# Altium integrated library AD Instrumentation Amplifier.IntLib: 75 symbols (part 2 of 2)
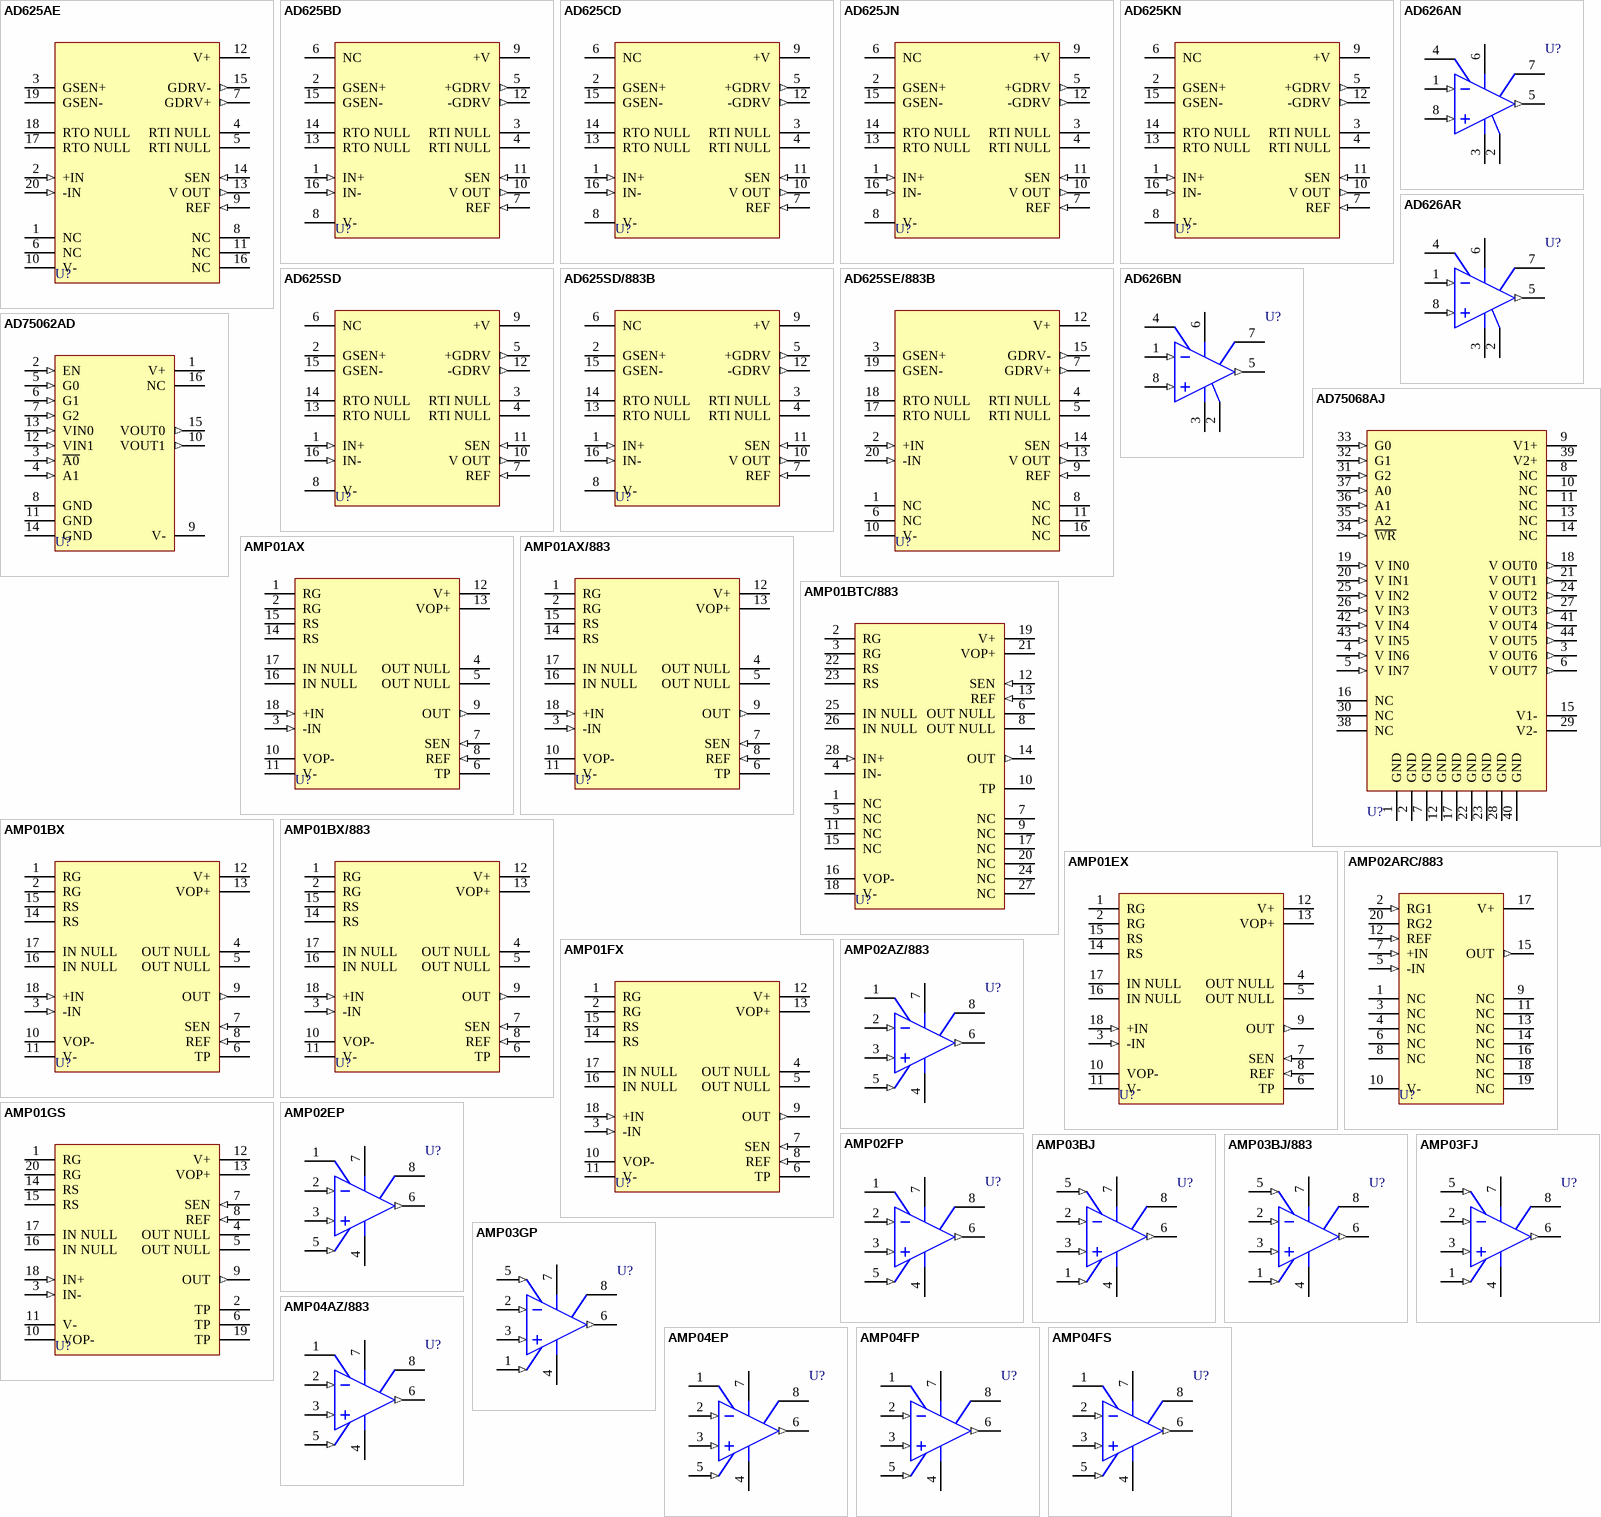
[diagram p3: symbols AD625AE to AMP04FS]

## AMP01BTC/883
designator U?
Low-Noise, Precision Instrumentation Amplifier; Note: Pins 1, 5, 7, 9, 11,15, 17, 20, 24 and 27 are not connected; Pin 10 is a test pin - make no electrical connection; Published: 8-Jun-2000; LatestRevisionDate: 17-Jul-2002; LatestRevisionNote: Re-released for DXP Platform.; DatasheetVersion: REV.C 1998; PackageReference: E-28A; Publisher: Altium Limited; PackageDescription: Leadless Chip Carrier; 28 Terminals; Body 11.4 x 11.4 mm; ComponentLink1Description: Manufacturer Link; ComponentLink1URL: http://www.analog.com/en/prod/0%2C2877%2CAMP01%2C00.html; ComponentLink2Description: Datasheet; ComponentLink2URL: http://www.analog.com/UploadedFiles/Data_Sheets/376080747AMP01_d.pdf
footprint E-28A (Leadless Chip Carrier; 28 Terminals; Body 11.4 x 11.4 mm)
simulation model AMP01 (SUBCKT)
pins: 1 NC, 2 RG, 3 RG, 4 IN-, 5 NC, 6 OUT NULL, 7 NC, 8 OUT NULL, 9 NC, 10 TP, 11 NC, 12 SEN (in), 13 REF (in), 14 OUT (out), 15 NC, 16 VOP- (power), 17 NC, 18 V- (power), 19 V+ (power), 20 NC, 21 VOP+ (power), 22 RS, 23 RS, 24 NC, 25 IN NULL, 26 IN NULL, 27 NC, 28 IN+ (in)

## AMP01BX
designator U?
Low-Noise, Precision Instrumentation Amplifier; Note: Pin 6 is a test pin.  Make no electrical connection to pin 6; Published: 8-Jun-2000; LatestRevisionDate: 04-Mar-2005; LatestRevisionNote: Stylized 3D Model Added.; DatasheetVersion: REV.C 1998; PackageReference: Q-18; Publisher: Altium Limited; PackageDescription: DIP, Ceramic; 18 Leads; Row Spacing 7.62 mm; Pitch 2.54 mm; ComponentLink1Description: Manufacturer Link; ComponentLink1URL: http://www.analog.com/en/prod/0%2C2877%2CAMP01%2C00.html; ComponentLink2Description: Datasheet; ComponentLink2URL: http://www.analog.com/UploadedFiles/Data_Sheets/376080747AMP01_d.pdf
footprint Q-18 (DIP, Ceramic; 18 Leads; Row Spacing 7.62 mm; Pitch 2.54 mm)
3D model Q18 (DIP, Ceramic; 18 Leads; Row Spacing 7.62 mm; Pitch 2.54 mm)
simulation model AMP01 (SUBCKT)
pins: 1 RG, 2 RG, 3 -IN (in), 4 OUT NULL, 5 OUT NULL, 6 TP, 7 SEN (in), 8 REF (in), 9 OUT (out), 10 VOP- (power), 11 V- (power), 12 V+ (power), 13 VOP+ (power), 14 RS, 15 RS, 16 IN NULL, 17 IN NULL, 18 +IN (in)

## AMP01BX/883
designator U?
Low-Noise, Precision Instrumentation Amplifier; Note: Pin 6 is a test pin.  Make no electrical connection to pin 6; Published: 8-Jun-2000; LatestRevisionDate: 04-Mar-2005; LatestRevisionNote: Stylized 3D Model Added.; DatasheetVersion: REV.C1 1990; PackageReference: Q-18; Publisher: Altium Limited; PackageDescription: DIP, Ceramic; 18 Leads; Row Spacing 7.62 mm; Pitch 2.54 mm; ComponentLink1Description: Manufacturer Link; ComponentLink1URL: http://www.analog.com/en/prod/0%2C2877%2CAMP01%2C00.html; ComponentLink2Description: Datasheet; ComponentLink2URL: http://www.analog.com/UploadedFiles/Data_Sheets/376080747AMP01_d.pdf
footprint Q-18 (DIP, Ceramic; 18 Leads; Row Spacing 7.62 mm; Pitch 2.54 mm)
3D model Q18 (DIP, Ceramic; 18 Leads; Row Spacing 7.62 mm; Pitch 2.54 mm)
simulation model AMP01 (SUBCKT)
pins: 1 RG, 2 RG, 3 -IN (in), 4 OUT NULL, 5 OUT NULL, 6 TP, 7 SEN (in), 8 REF (in), 9 OUT (out), 10 VOP- (power), 11 V- (power), 12 V+ (power), 13 VOP+ (power), 14 RS, 15 RS, 16 IN NULL, 17 IN NULL, 18 +IN (in)

## AMP01EX
designator U?
Low-Noise, Precision Instrumentation Amplifier; Note: Pin 6 is a test pin.  Make no electrical connection to pin 6; Published: 8-Jun-2000; LatestRevisionDate: 04-Mar-2005; LatestRevisionNote: Stylized 3D Model Added.; DatasheetVersion: REV.C 1998; PackageReference: Q-18; Publisher: Altium Limited; PackageDescription: DIP, Ceramic; 18 Leads; Row Spacing 7.62 mm; Pitch 2.54 mm; ComponentLink1Description: Manufacturer Link; ComponentLink1URL: http://www.analog.com/en/prod/0%2C2877%2CAMP01%2C00.html; ComponentLink2Description: Datasheet; ComponentLink2URL: http://www.analog.com/UploadedFiles/Data_Sheets/376080747AMP01_d.pdf
footprint Q-18 (DIP, Ceramic; 18 Leads; Row Spacing 7.62 mm; Pitch 2.54 mm)
3D model Q18 (DIP, Ceramic; 18 Leads; Row Spacing 7.62 mm; Pitch 2.54 mm)
simulation model AMP01 (SUBCKT)
pins: 1 RG, 2 RG, 3 -IN (in), 4 OUT NULL, 5 OUT NULL, 6 TP, 7 SEN (in), 8 REF (in), 9 OUT (out), 10 VOP- (power), 11 V- (power), 12 V+ (power), 13 VOP+ (power), 14 RS, 15 RS, 16 IN NULL, 17 IN NULL, 18 +IN (in)

## AMP01FX
designator U?
Low-Noise, Precision Instrumentation Amplifier; Note: Pin 6 is a test pin.  Make no electrical connection to pin 6; Published: 8-Jun-2000; LatestRevisionDate: 04-Mar-2005; LatestRevisionNote: Stylized 3D Model Added.; DatasheetVersion: REV.C 1998; PackageReference: Q-18; Publisher: Altium Limited; PackageDescription: DIP, Ceramic; 18 Leads; Row Spacing 7.62 mm; Pitch 2.54 mm; ComponentLink1Description: Manufacturer Link; ComponentLink1URL: http://www.analog.com/en/prod/0%2C2877%2CAMP01%2C00.html; ComponentLink2Description: Datasheet; ComponentLink2URL: http://www.analog.com/UploadedFiles/Data_Sheets/376080747AMP01_d.pdf
footprint Q-18 (DIP, Ceramic; 18 Leads; Row Spacing 7.62 mm; Pitch 2.54 mm)
3D model Q18 (DIP, Ceramic; 18 Leads; Row Spacing 7.62 mm; Pitch 2.54 mm)
simulation model AMP01 (SUBCKT)
pins: 1 RG, 2 RG, 3 -IN (in), 4 OUT NULL, 5 OUT NULL, 6 TP, 7 SEN (in), 8 REF (in), 9 OUT (out), 10 VOP- (power), 11 V- (power), 12 V+ (power), 13 VOP+ (power), 14 RS, 15 RS, 16 IN NULL, 17 IN NULL, 18 +IN (in)

## AMP01GS
designator U?
Low-Noise, Precision Instrumentation Amplifier; Note: Pins 2 and 19 are not connected; Pin 6 is a test pin - make no electrical connection to pin 6; Published: 8-Jun-2000; LatestRevisionDate: 13-Apr-2006; LatestRevisionNote: IPC-7351 Footprint Added.; DatasheetVersion: REV.C 1998; PackageReference: SOL-20; Publisher: Altium Limited; PackageDescription: 20-Pin Small Outline Integrated Circuit 1.27 mm Pitch; Code_JEDEC: MS-013-AC; Code_IPC: SOIC127P1030-20; ComponentLink1Description: Manufacturer Link; ComponentLink1URL: http://www.analog.com/en/prod/0%2C2877%2CAMP01%2C00.html; ComponentLink2Description: Datasheet; ComponentLink2URL: http://www.analog.com/UploadedFiles/Data_Sheets/376080747AMP01_d.pdf
footprint SOL-20_N (SOIC, 20-Leads, Body 12.8x7.5mm, Pitch 1.27mm, IPC Medium Density)
footprint SOL-20_L (SOIC, 20-Leads, Body 12.8x7.5mm, Pitch 1.27mm, IPC High Density)
footprint SOL-20_M (SOIC, 20-Leads, Body 12.8x7.5mm, Pitch 1.27mm, IPC Low Density)
3D model SOL-20 (20-Pin Small Outline Integrated Circuit 1.27 mm Pitch)
simulation model AMP01 (SUBCKT)
pins: 1 RG, 2 TP, 3 IN- (in), 4 OUT NULL, 5 OUT NULL, 6 TP, 7 SEN (in), 8 REF (in), 9 OUT (out), 10 VOP- (power), 11 V- (power), 12 V+ (power), 13 VOP+ (power), 14 RS, 15 RS, 16 IN NULL, 17 IN NULL, 18 IN+ (in), 19 TP, 20 RG

## AMP02ARC/883
designator U?
High-Accuracy 8-Pin Instrumentation Amplifier; Note: Pins 1, 3, 4, 6, 8, 9, 11, 13, 14, 16, 18 and 19 are not connected; Published: 8-Jun-2000; LatestRevisionDate: 17-Jul-2002; LatestRevisionNote: Re-released for DXP Platform.; DatasheetVersion: REV.A 1993; PackageReference: E-20A; Publisher: Altium Limited; PackageDescription: Leadless Chip Carrier; 20 Terminals; Body 8.9 x 8.9 mm; ComponentLink1Description: Manufacturer Link; ComponentLink1URL: http://www.analog.com/
footprint E-20A (Leadless Chip Carrier; 20 Terminals; Body 8.9 x 8.9 mm)
simulation model AMP02 (SUBCKT)
pins: 1 NC, 2 RG1 (in), 3 NC, 4 NC, 5 -IN (in), 6 NC, 7 +IN (in), 8 NC, 9 NC, 10 V- (power), 11 NC, 12 REF (in), 13 NC, 14 NC, 15 OUT (out), 16 NC, 17 V+ (power), 18 NC, 19 NC, 20 RG2

## AMP02AZ/883
designator U?
High-Accuracy 8-Pin Instrumentation Amplifier; Published: 8-Jun-2000; LatestRevisionDate: 04-Mar-2005; LatestRevisionNote: Stylized 3D Model Added.; DatasheetVersion: REV.D 1998; PackageVersion: 1998; PackageReference: Q-8; Publisher: Altium Limited; PackageDescription: DIP; 8 Leads; Row Spacing 7.62 mm; Pitch 2.54 mm; ComponentLink1Description: Manufacturer Link; ComponentLink1URL: http://www.analog.com/en/prod/0%2C2877%2CAMP02%2C00.html; ComponentLink2Description: Datasheet; ComponentLink2URL: http://www.analog.com/UploadedFiles/Data_Sheets/855528794AMP02_e.pdf
footprint Q-8 (DIP; 8 Leads; Row Spacing 7.62 mm; Pitch 2.54 mm)
3D model N8 (DIP; 8 Leads; Row Spacing 7.62 mm; Pitch 2.54 mm)
simulation model AMP02 (SUBCKT)
pins: 1 RG1, 2 IN- (in), 3 IN+ (in), 4 V- (power), 5 REF (in), 6 OUT (out), 7 V+ (power), 8 RG2

## AMP02EP
designator U?
High-Accuracy 8-Pin Instrumentation Amplifier; Published: 8-Jun-2000; LatestRevisionDate: 04-Mar-2005; LatestRevisionNote: Stylized 3D Model Added.; DatasheetVersion: REV.D 1998; PackageReference: N-8_A; Publisher: Altium Limited; PackageDescription: DIP; 8 Leads; Row Spacing 7.62 mm; Pitch 2.54 mm; Code_JEDEC: MO-001-AN; ComponentLink1Description: Manufacturer Link; ComponentLink1URL: http://www.analog.com/en/prod/0%2C2877%2CAMP02%2C00.html; ComponentLink2Description: Datasheet; ComponentLink2URL: http://www.analog.com/UploadedFiles/Data_Sheets/855528794AMP02_e.pdf
footprint N-8_A (DIP; 8 Leads; Row Spacing 7.62 mm; Pitch 2.54 mm)
3D model N8-A (DIP; 8 Leads; Row Spacing 7.62 mm; Pitch 2.54 mm)
simulation model AMP02 (SUBCKT)
pins: 1 RG1, 2 IN- (in), 3 IN+ (in), 4 V- (power), 5 REF (in), 6 OUT (out), 7 V+ (power), 8 RG2

## AMP02FP
designator U?
High-Accuracy 8-Pin Instrumentation Amplifier; Published: 8-Jun-2000; LatestRevisionDate: 04-Mar-2005; LatestRevisionNote: Stylized 3D Model Added.; DatasheetVersion: REV.D 1998; PackageReference: N-8_A; Publisher: Altium Limited; PackageDescription: DIP; 8 Leads; Row Spacing 7.62 mm; Pitch 2.54 mm; Code_JEDEC: MO-001-AN; ComponentLink1Description: Manufacturer Link; ComponentLink1URL: http://www.analog.com/en/prod/0%2C2877%2CAMP02%2C00.html; ComponentLink2Description: Datasheet; ComponentLink2URL: http://www.analog.com/UploadedFiles/Data_Sheets/855528794AMP02_e.pdf
footprint N-8_A (DIP; 8 Leads; Row Spacing 7.62 mm; Pitch 2.54 mm)
3D model N8-A (DIP; 8 Leads; Row Spacing 7.62 mm; Pitch 2.54 mm)
simulation model AMP02 (SUBCKT)
pins: 1 RG1, 2 IN- (in), 3 IN+ (in), 4 V- (power), 5 REF (in), 6 OUT (out), 7 V+ (power), 8 RG2

## AMP03BJ
designator U?
Precision, Unity-Gain Differential Amplifier; Note: Pin 8 is not connected; Published: 8-Jun-2000; LatestRevisionDate: 17-Jul-2002; LatestRevisionNote: Re-released for DXP Platform.; DatasheetVersion: 1998; PackageVersion: 1990; PackageReference: H-08A; Publisher: Altium Limited; PackageDescription: Can; 8 Leads; Pin Circle Dia. 5.08 mm; Lead Dia. 0.53 mm (max); ComponentLink1Description: Manufacturer Link; ComponentLink1URL: http://www.analog.com/en/prod/0%2C2877%2CAMP03%2C00.html; ComponentLink2Description: Datasheet; ComponentLink2URL: http://www.analog.com/UploadedFiles/Data_Sheets/5401336159411174194AMP03_f.pdf
footprint H-08A (Can; 8 Leads; Pin Circle Dia. 5.08 mm; Lead Dia. 0.53 mm (max))
pins: 1 REF (in), 2 -IN (in), 3 +IN (in), 4 V- (power), 5 SEN (in), 6 OUT (out), 7 V+ (power), 8 NC

## AMP03BJ/883
designator U?
Precision, Unity-Gain Differential Amplifier; Note: Pin 8 is not connected; Published: 8-Jun-2000; LatestRevisionDate: 17-Jul-2002; LatestRevisionNote: Re-released for DXP Platform.; DatasheetVersion: 1998; PackageVersion: 1990; PackageReference: H-08A; Publisher: Altium Limited; PackageDescription: Can; 8 Leads; Pin Circle Dia. 5.08 mm; Lead Dia. 0.53 mm (max); ComponentLink1Description: Manufacturer Link; ComponentLink1URL: http://www.analog.com/en/prod/0%2C2877%2CAMP03%2C00.html; ComponentLink2Description: Datasheet; ComponentLink2URL: http://www.analog.com/UploadedFiles/Data_Sheets/5401336159411174194AMP03_f.pdf
footprint H-08A (Can; 8 Leads; Pin Circle Dia. 5.08 mm; Lead Dia. 0.53 mm (max))
pins: 1 REF (in), 2 -IN (in), 3 +IN (in), 4 V- (power), 5 SEN (in), 6 OUT (out), 7 V+ (power), 8 NC

## AMP03FJ
designator U?
Precision, Unity-Gain Differential Amplifier; Note: Pin 8 is not connected; Published: 8-Jun-2000; LatestRevisionDate: 17-Jul-2002; LatestRevisionNote: Re-released for DXP Platform.; DatasheetVersion: 1998; PackageVersion: 1990; PackageReference: H-08A; Publisher: Altium Limited; PackageDescription: Can; 8 Leads; Pin Circle Dia. 5.08 mm; Lead Dia. 0.53 mm (max); ComponentLink1Description: Manufacturer Link; ComponentLink1URL: http://www.analog.com/en/prod/0%2C2877%2CAMP03%2C00.html; ComponentLink2Description: Datasheet; ComponentLink2URL: http://www.analog.com/UploadedFiles/Data_Sheets/5401336159411174194AMP03_f.pdf
footprint H-08A (Can; 8 Leads; Pin Circle Dia. 5.08 mm; Lead Dia. 0.53 mm (max))
pins: 1 REF (in), 2 -IN (in), 3 +IN (in), 4 V- (power), 5 SEN (in), 6 OUT (out), 7 V+ (power), 8 NC

## AMP03GP
designator U?
Precision, Unity-Gain Differential Amplifier; Note: Pin 8 is not connected; Published: 8-Jun-2000; LatestRevisionDate: 04-Mar-2005; LatestRevisionNote: Stylized 3D Model Added.; DatasheetVersion: 1998; PackageReference: N-8_A; Publisher: Altium Limited; PackageDescription: DIP; 8 Leads; Row Spacing 7.62 mm; Pitch 2.54 mm; Code_JEDEC: MO-001-AN; ComponentLink1Description: Manufacturer Link; ComponentLink1URL: http://www.analog.com/en/prod/0%2C2877%2CAMP03%2C00.html; ComponentLink2Description: Datasheet; ComponentLink2URL: http://www.analog.com/UploadedFiles/Data_Sheets/5401336159411174194AMP03_f.pdf
footprint N-8_A (DIP; 8 Leads; Row Spacing 7.62 mm; Pitch 2.54 mm)
3D model N8-A (DIP; 8 Leads; Row Spacing 7.62 mm; Pitch 2.54 mm)
pins: 1 REF (in), 2 -IN (in), 3 +IN (in), 4 V- (power), 5 SEN (in), 6 OUT (out), 7 V+ (power), 8 NC

## AMP04AZ/883
designator U?
Precision Single-Supply Instrumentation Amplifier; Published: 8-Jun-2000; LatestRevisionDate: 04-Mar-2005; LatestRevisionNote: Stylized 3D Model Added.; DatasheetVersion: REV.O 1994; PackageVersion: 1998; PackageReference: Q-8; Publisher: Altium Limited; PackageDescription: DIP; 8 Leads; Row Spacing 7.62 mm; Pitch 2.54 mm; ComponentLink1Description: Manufacturer Link; ComponentLink1URL: http://www.analog.com/en/prod/0%2C2877%2CAMP04%2C00.html; ComponentLink2Description: Datasheet; ComponentLink2URL: http://www.analog.com/UploadedFiles/Data_Sheets/421758465AMP04_b.pdf
footprint Q-8 (DIP; 8 Leads; Row Spacing 7.62 mm; Pitch 2.54 mm)
3D model N8 (DIP; 8 Leads; Row Spacing 7.62 mm; Pitch 2.54 mm)
simulation model AMP04 (SUBCKT)
pins: 1 RG, 2 -IN (in), 3 +IN (in), 4 V- (power), 5 REF (in), 6 OUT (out), 7 V+ (power), 8 RG

## AMP04EP
designator U?
Precision Single-Supply Instrumentation Amplifier; Published: 8-Jun-2000; LatestRevisionDate: 04-Mar-2005; LatestRevisionNote: Pspice Parameters deleted from SIM Model, Stylized 3D Model Added.; DatasheetVersion: REV.A 1998; PackageReference: N-8_A; Publisher: Altium Limited; PackageDescription: DIP; 8 Leads; Row Spacing 7.62 mm; Pitch 2.54 mm; Code_JEDEC: MO-001-AN; ComponentLink1Description: Manufacturer Link; ComponentLink1URL: http://www.analog.com/en/prod/0%2C2877%2CAMP04%2C00.html; ComponentLink2Description: Datasheet; ComponentLink2URL: http://www.analog.com/UploadedFiles/Data_Sheets/421758465AMP04_b.pdf
footprint N-8_A (DIP; 8 Leads; Row Spacing 7.62 mm; Pitch 2.54 mm)
3D model N8-A (DIP; 8 Leads; Row Spacing 7.62 mm; Pitch 2.54 mm)
simulation model AMP04E (SUBCKT)
pins: 1 RG, 2 -IN (in), 3 +IN (in), 4 V- (power), 5 REF (in), 6 OUT (out), 7 V+ (power), 8 RG

## AMP04FP
designator U?
Precision Single-Supply Instrumentation Amplifier; Published: 8-Jun-2000; LatestRevisionDate: 04-Mar-2005; LatestRevisionNote: Stylized 3D Model Added.; DatasheetVersion: REV.A 1998; PackageReference: N-8_A; Publisher: Altium Limited; PackageDescription: DIP; 8 Leads; Row Spacing 7.62 mm; Pitch 2.54 mm; Code_JEDEC: MO-001-AN; ComponentLink1Description: Manufacturer Link; ComponentLink1URL: http://www.analog.com/en/prod/0%2C2877%2CAMP04%2C00.html; ComponentLink2Description: Datasheet; ComponentLink2URL: http://www.analog.com/UploadedFiles/Data_Sheets/421758465AMP04_b.pdf
footprint N-8_A (DIP; 8 Leads; Row Spacing 7.62 mm; Pitch 2.54 mm)
3D model N8-A (DIP; 8 Leads; Row Spacing 7.62 mm; Pitch 2.54 mm)
simulation model AMP04F (SUBCKT)
pins: 1 RG, 2 -IN (in), 3 +IN (in), 4 V- (power), 5 REF (in), 6 OUT (out), 7 V+ (power), 8 RG

## AMP04FS
designator U?
Precision Single-Supply Instrumentation Amplifier; Published: 8-Jun-2000; LatestRevisionDate: 13-Apr-2006; LatestRevisionNote: IPC-7351 Footprint Added.; DatasheetVersion: REV.A 1998; PackageVersion: revA; PackageReference: SO-8; Publisher: Altium Limited; PackageDescription: 8-Pin Small Outline Integrated Circuit 1.27 mm Pitch; Code_JEDEC: MS-012-AA; Code_IPC: SOIC127P600-8; ComponentLink1Description: Manufacturer Link; ComponentLink1URL: http://www.analog.com/en/prod/0%2C2877%2CAMP04%2C00.html; ComponentLink2Description: Datasheet; ComponentLink2URL: http://www.analog.com/UploadedFiles/Data_Sheets/421758465AMP04_b.pdf
footprint SO-8_N (SOIC, 8-Leads, Body 4.9x3.9mm, Pitch 1.27mm, IPC Medium Density)
footprint SO-8_L (SOIC, 8-Leads, Body 4.9x3.9mm, Pitch 1.27mm, IPC High Density)
footprint SO-8_M (SOIC, 8-Leads, Body 4.9x3.9mm, Pitch 1.27mm, IPC Low Density)
3D model SO-8 (8-Pin Small Outline Integrated Circuit 1.27 mm Pitch)
simulation model AMP04F (SUBCKT)
pins: 1 RG, 2 -IN (in), 3 +IN (in), 4 V- (power), 5 REF (in), 6 OUT (out), 7 V+ (power), 8 RG

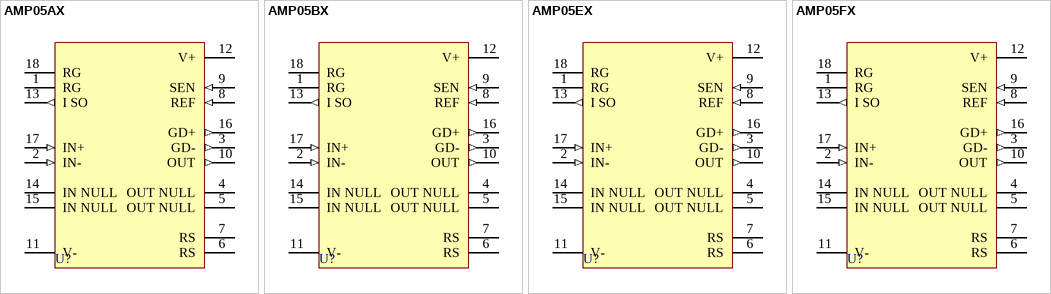
[diagram p2: symbols AMP05AX to AMP05FX]

## AMP05AX
designator U?
Fast Settling JFET Instrumentation Amplifier; Published: 8-Jun-2000; LatestRevisionDate: 04-Mar-2005; LatestRevisionNote: Stylized 3D Model Added.; DatasheetVersion: REV.B 6.1992; PackageReference: Q-18; Publisher: Altium Limited; PackageDescription: DIP, Ceramic; 18 Leads; Row Spacing 7.62 mm; Pitch 2.54 mm; ComponentLink1Description: Manufacturer Link; ComponentLink1URL: http://www.analog.com/
footprint Q-18 (DIP, Ceramic; 18 Leads; Row Spacing 7.62 mm; Pitch 2.54 mm)
3D model Q18 (DIP, Ceramic; 18 Leads; Row Spacing 7.62 mm; Pitch 2.54 mm)
pins: 1 RG, 2 IN- (in), 3 GD- (out), 4 OUT NULL, 5 OUT NULL, 6 RS, 7 RS, 8 REF (in), 9 SEN (in), 10 OUT (out), 11 V- (power), 12 V+ (power), 13 I SO (out), 14 IN NULL, 15 IN NULL, 16 GD+ (out), 17 IN+ (in), 18 RG

## AMP05BX
designator U?
Fast Settling JFET Instrumentation Amplifier; Published: 8-Jun-2000; LatestRevisionDate: 04-Mar-2005; LatestRevisionNote: Stylized 3D Model Added.; DatasheetVersion: REV.B 6.1992; PackageReference: Q-18; Publisher: Altium Limited; PackageDescription: DIP, Ceramic; 18 Leads; Row Spacing 7.62 mm; Pitch 2.54 mm; ComponentLink1Description: Manufacturer Link; ComponentLink1URL: http://www.analog.com/
footprint Q-18 (DIP, Ceramic; 18 Leads; Row Spacing 7.62 mm; Pitch 2.54 mm)
3D model Q18 (DIP, Ceramic; 18 Leads; Row Spacing 7.62 mm; Pitch 2.54 mm)
pins: 1 RG, 2 IN- (in), 3 GD- (out), 4 OUT NULL, 5 OUT NULL, 6 RS, 7 RS, 8 REF (in), 9 SEN (in), 10 OUT (out), 11 V- (power), 12 V+ (power), 13 I SO (out), 14 IN NULL, 15 IN NULL, 16 GD+ (out), 17 IN+ (in), 18 RG

## AMP05EX
designator U?
Fast Settling JFET Instrumentation Amplifier; Published: 8-Jun-2000; LatestRevisionDate: 04-Mar-2005; LatestRevisionNote: Stylized 3D Model Added.; DatasheetVersion: REV.B 6.1992; PackageReference: Q-18; Publisher: Altium Limited; PackageDescription: DIP, Ceramic; 18 Leads; Row Spacing 7.62 mm; Pitch 2.54 mm; ComponentLink1Description: Manufacturer Link; ComponentLink1URL: http://www.analog.com/
footprint Q-18 (DIP, Ceramic; 18 Leads; Row Spacing 7.62 mm; Pitch 2.54 mm)
3D model Q18 (DIP, Ceramic; 18 Leads; Row Spacing 7.62 mm; Pitch 2.54 mm)
pins: 1 RG, 2 IN- (in), 3 GD- (out), 4 OUT NULL, 5 OUT NULL, 6 RS, 7 RS, 8 REF (in), 9 SEN (in), 10 OUT (out), 11 V- (power), 12 V+ (power), 13 I SO (out), 14 IN NULL, 15 IN NULL, 16 GD+ (out), 17 IN+ (in), 18 RG

## AMP05FX
designator U?
Fast Settling JFET Instrumentation Amplifier; Published: 8-Jun-2000; LatestRevisionDate: 04-Mar-2005; LatestRevisionNote: Stylized 3D Model Added.; DatasheetVersion: REV.B 6.1992; PackageReference: Q-18; Publisher: Altium Limited; PackageDescription: DIP, Ceramic; 18 Leads; Row Spacing 7.62 mm; Pitch 2.54 mm; ComponentLink1Description: Manufacturer Link; ComponentLink1URL: http://www.analog.com/
footprint Q-18 (DIP, Ceramic; 18 Leads; Row Spacing 7.62 mm; Pitch 2.54 mm)
3D model Q18 (DIP, Ceramic; 18 Leads; Row Spacing 7.62 mm; Pitch 2.54 mm)
pins: 1 RG, 2 IN- (in), 3 GD- (out), 4 OUT NULL, 5 OUT NULL, 6 RS, 7 RS, 8 REF (in), 9 SEN (in), 10 OUT (out), 11 V- (power), 12 V+ (power), 13 I SO (out), 14 IN NULL, 15 IN NULL, 16 GD+ (out), 17 IN+ (in), 18 RG